# Altium schematic symbol library Components - 22.08.24 - 16.41.SchLib: 1 symbol
Pins are listed as number, name and electrical type; pins without a type are passive.

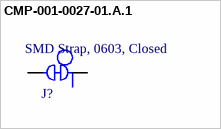
[diagram p0: symbol CMP-001-0027-01.A.1]

## CMP-001-0027-01.A.1
designator J?, comment SMD Strap, 0603, Closed  (net tie, no BOM)
PartGroup: Mechanical devices,PCB implemented components; AN: A09-0783; Value: SMD-STRAP_0603_CLOSED; Height: 0
footprint AP9-00044
footprint JMP-0603-STRAP-CLOSED (SMD Strap, 0603, Closed)
pins: 1, 2